# EAGLE library part LMP7702 (library synth)
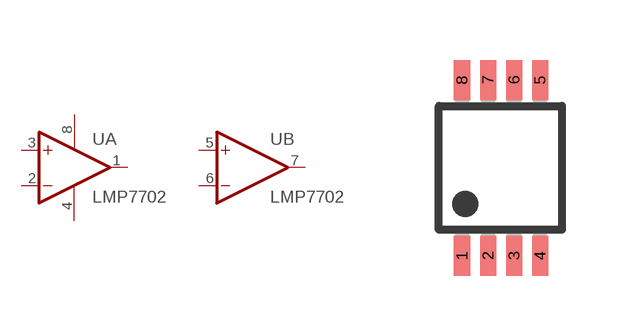
[diagram p0: symbol with the pads of DGK_S-DPSO-G8; footprint DGK_S-DPSO-G8]

Designator prefix U; gates A=OPAMP B=OPAMP G$2=PWR+-

## LMP7702  [DGK_S-DPSO-G8]
1  A:OUT  out
2  A:-IN  in
3  A:+IN  in
4  G$2:V-  pwr
5  B:+IN  in
6  B:-IN  in
7  B:OUT  out
8  G$2:V+  pwr

## Footprint DGK_S-DPSO-G8 (pad centres in mm)
smd 0.4 x 1: 1 -0.975,-2.2; 2 -0.325,-2.2; 3 0.325,-2.2; 4 0.975,-2.2; 5 0.975,2.2; 6 0.325,2.2; 7 -0.325,2.2; 8 -0.975,2.2